# EAGLE library part WM8731SEDS_RV (library WM8731SEDS_RV)
Interface - CODECs Stereo Codec w-H/P Source: Datasheet <https://componentsearchengine.com/Datasheets/1/WM8731SEDS_RV.pdf>
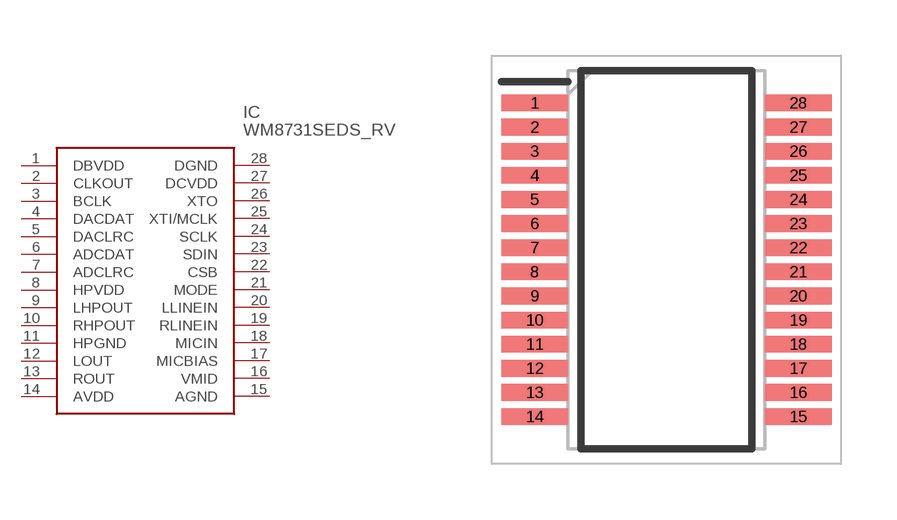
[diagram p0: symbol with the pads of SOP65P780X200-28N; footprint SOP65P780X200-28N]

Designator prefix IC

## WM8731SEDS_RV (Description: Interface - CODECs Stereo Codec w-H/P; Height: 2mm; Manufacturer_Name: Cirrus Logic; Manufacturer_Part_Number: WM8731SEDS/RV; Mouser_Part_Number: 238-WM8731SEDS/RV; Mouser_Price-Stock: https://www.mouser.com/Search/Refine.aspx?Keyword=238-WM8731SEDS%2FRV)  [SOP65P780X200-28N]
1  DBVDD
2  CLKOUT
3  BCLK
4  DACDAT
5  DACLRC
6  ADCDAT
7  ADCLRC
8  HPVDD
9  LHPOUT
10  RHPOUT
11  HPGND
12  LOUT
13  ROUT
14  AVDD
15  AGND
16  VMID
17  MICBIAS
18  MICIN
19  RLINEIN
20  LLINEIN
21  MODE
22  CSB
23  SDIN
24  SCLK
25  XTI/MCLK
26  XTO
27  DCVDD
28  DGND

## Footprint SOP65P780X200-28N (pad centres in mm)
WM8731SEDS/RV-1
smd 1.8 x 0.45: 1 -3.55,4.225; 2 -3.55,3.575; 3 -3.55,2.925; 4 -3.55,2.275; 5 -3.55,1.625; 6 -3.55,0.975; 7 -3.55,0.325; 8 -3.55,-0.325; 9 -3.55,-0.975; 10 -3.55,-1.625; 11 -3.55,-2.275; 12 -3.55,-2.925; 13 -3.55,-3.575; 14 -3.55,-4.225; 15 3.55,-4.225; 16 3.55,-3.575; 17 3.55,-2.925; 18 3.55,-2.275; 19 3.55,-1.625; 20 3.55,-0.975; 21 3.55,-0.325; 22 3.55,0.325; 23 3.55,0.975; 24 3.55,1.625; 25 3.55,2.275; 26 3.55,2.925; 27 3.55,3.575; 28 3.55,4.225